# EAGLE library part SST26VF064B-104I/MF (library circuit_tree)
IC
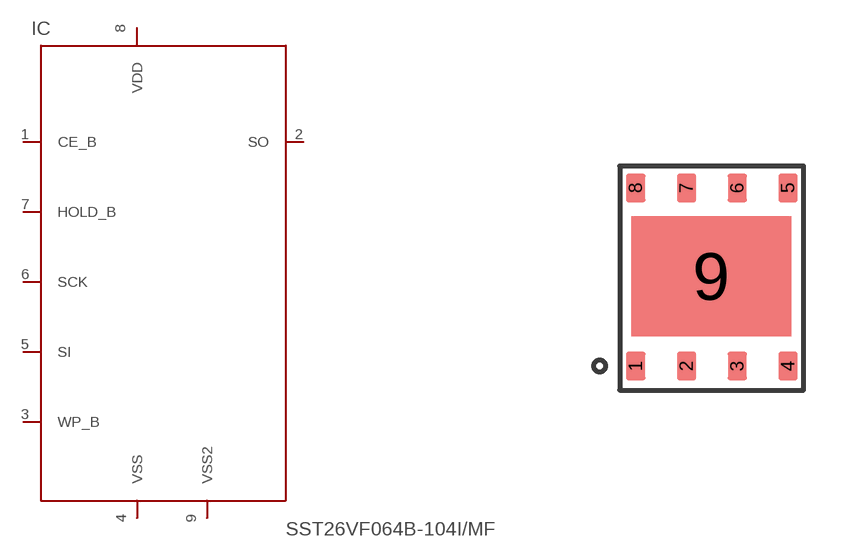
[diagram p7: symbol with the pads of WFDN-8; footprint WFDN-8]

Designator prefix IC

## SST26VF064B-104I/MF  [WFDN-8]
1  CE_B  pas
2  SO  pas
3  WP_B  pas
4  VSS  pas
5  SI  pas
6  SCK  pas
7  HOLD_B  pas
8  VDD  pas
9  VSS2  pas

## Footprint WFDN-8 (pad centres in mm)
smd 0.48 x 0.7: 1 0,0; 2 1.27,0; 3 2.54,0; 4 3.81,0; 5 3.81,4.45; 6 2.54,4.45; 7 1.27,4.45; 8 0,4.45
smd 4 x 3: 9 1.89,2.25